# EAGLE library part NMOS2MSOP8 (library zetex)
Dual MOS FET
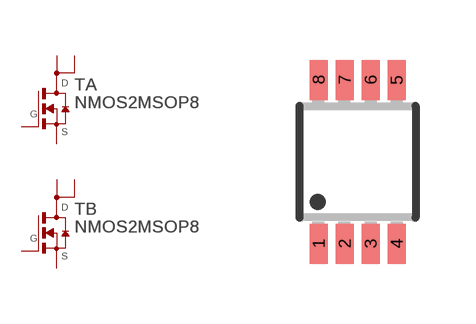
[diagram p5: symbol with the pads of MSOP8; footprint MSOP8]

Designator prefix T; gates A=N_MOS2D B=N_MOS2D

## NMOS2MSOP8  [MSOP8]
1  B:D  pas
2  B:D2  pas
3  A:D  pas
4  A:D2  pas
5  A:S  pas
6  A:G  pas
7  B:S  pas
8  B:G  pas

## Footprint MSOP8 (pad centres in mm)
Micro Small Outline Package
smd 0.45 x 1: 1 -0.975,-2.05; 2 -0.325,-2.05; 3 0.325,-2.05; 4 0.975,-2.05; 5 0.975,2.05; 6 0.325,2.05; 7 -0.325,2.05; 8 -0.975,2.05